# Altium integrated library Free Documents.IntLib: 1 symbol
Pins are listed as number, name and electrical type; pins without a type are passive.

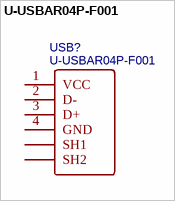
[diagram p0: symbol U-USBAR04P-F001]

## U-USBAR04P-F001
designator USB?
BOM_Manufacturer: Shenzhen Cankemeng; Contributor: LCSC; BOM_Supplier: LCSC; BOM_Supplier Part: C386736; BOM_Manufacturer Part: U-USBAR04P-F001; BOM_JLCPCB Part Class: Extended Part; spicePre: U; spiceSymbolName: U-USBAR04P-F001
footprint USB-A-TH_USB-302-T
pins: 1 VCC, 2 D-, 3 D+, 4 GND, 5 SH1, 6 SH2